# EAGLE library part DMC3028LSD (library BEEP)
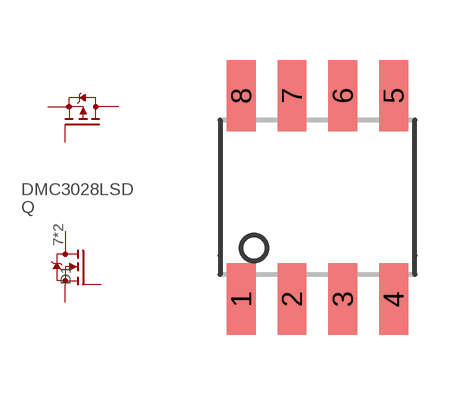
[diagram p14: symbol with the pads of SO08; footprint SO08]

Designator prefix Q

## DMC3028LSD  [SO08]
1  S1  pas
2  G1  pas
3  S2  pas
4  G2  pas
5  D2  pas
6  D2  pas
7  D1
8  D1

## Footprint SO08 (pad centres in mm)
SO8 Source: http://www.irf.com/product-info/datasheets/data/irf7389.pdf
smd 0.72 x 1.78: 1 -1.905,-2.543; 2 -0.635,-2.543; 3 0.635,-2.543; 4 1.905,-2.543; 5 1.905,2.543; 6 0.635,2.543; 7 -0.635,2.543; 8 -1.905,2.543